# EAGLE library part SJ111881 (library ProjectNorthStar)
Outer Shell Receptacle http://www.jae.com/z-en/pdf_download_exec.cfm?param=SJ111881.pdf
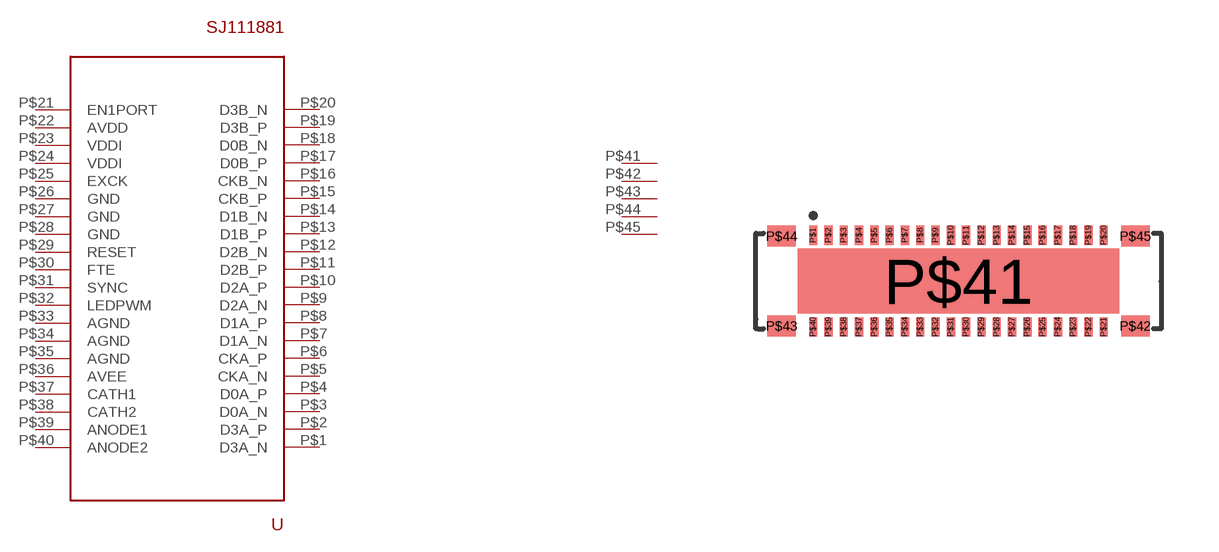
[diagram p0: symbol with the pads of SJ111881; footprint SJ111881]

Designator prefix -

## SJ111881  [SJ111881]
P$1  D3A_N
P$2  D3A_P
P$3  D0A_N
P$4  D0A_P
P$5  CKA_N
P$6  CKA_P
P$7  D1A_N
P$8  D1A_P
P$9  D2A_N
P$10  D2A_P
P$11  D2B_P
P$12  D2B_N
P$13  D1B_P
P$14  D1B_N
P$15  CKB_P
P$16  CKB_N
P$17  D0B_P
P$18  D0B_N
P$19  D3B_P
P$20  D3B_N
P$21  EN1PORT
P$22  AVDD
P$23  VDDI
P$24  VDDI
P$25  EXCK
P$26  GND
P$27  GND
P$28  GND
P$29  RESET
P$30  FTE
P$31  SYNC
P$32  LEDPWM
P$33  AGND
P$34  AGND
P$35  AGND
P$36  AVEE
P$37  CATH1
P$38  CATH2
P$39  ANODE1
P$40  ANODE2
P$41  GND  pwr
P$42  GND  pwr
P$43  GND  pwr
P$44  GND  pwr
P$45  GND  pwr

## Footprint SJ111881 (pad centres in mm)
smd 0.22 x 0.5: P$1 -3.8,1.2; P$2 -3.4,1.2; P$3 -3,1.2; P$4 -2.6,1.2; P$5 -2.2,1.2; P$6 -1.8,1.2; P$7 -1.4,1.2; P$8 -1,1.2; P$9 -0.6,1.2; P$10 -0.2,1.2; P$11 0.2,1.2; P$12 0.6,1.2; P$13 1,1.2; P$14 1.4,1.2; P$15 1.8,1.2; P$16 2.2,1.2; P$17 2.6,1.2; P$18 3,1.2; P$19 3.4,1.2; P$20 3.8,1.2; P$21 3.8,-1.2; P$22 3.4,-1.2; P$23 3,-1.2; P$24 2.6,-1.2; P$25 2.2,-1.2; P$26 1.8,-1.2; P$27 1.4,-1.2; P$28 1,-1.2; P$29 0.6,-1.2; P$30 0.2,-1.2; P$31 -0.2,-1.2; P$32 -0.6,-1.2; P$33 -1,-1.2; P$34 -1.4,-1.2; P$35 -1.8,-1.2; P$36 -2.2,-1.2; P$37 -2.6,-1.2; P$38 -3,-1.2; P$39 -3.4,-1.2; P$40 -3.8,-1.2
smd 8.4 x 1.7: P$41 0,0
smd 0.75 x 0.55: P$42 4.625,-1.175; P$43 -4.625,-1.175; P$44 -4.625,1.175; P$45 4.625,1.175